# Altium schematic symbol library MezzanineDCDC.SchLib: 25 symbols
Pins are listed as number, name and electrical type; pins without a type are passive.

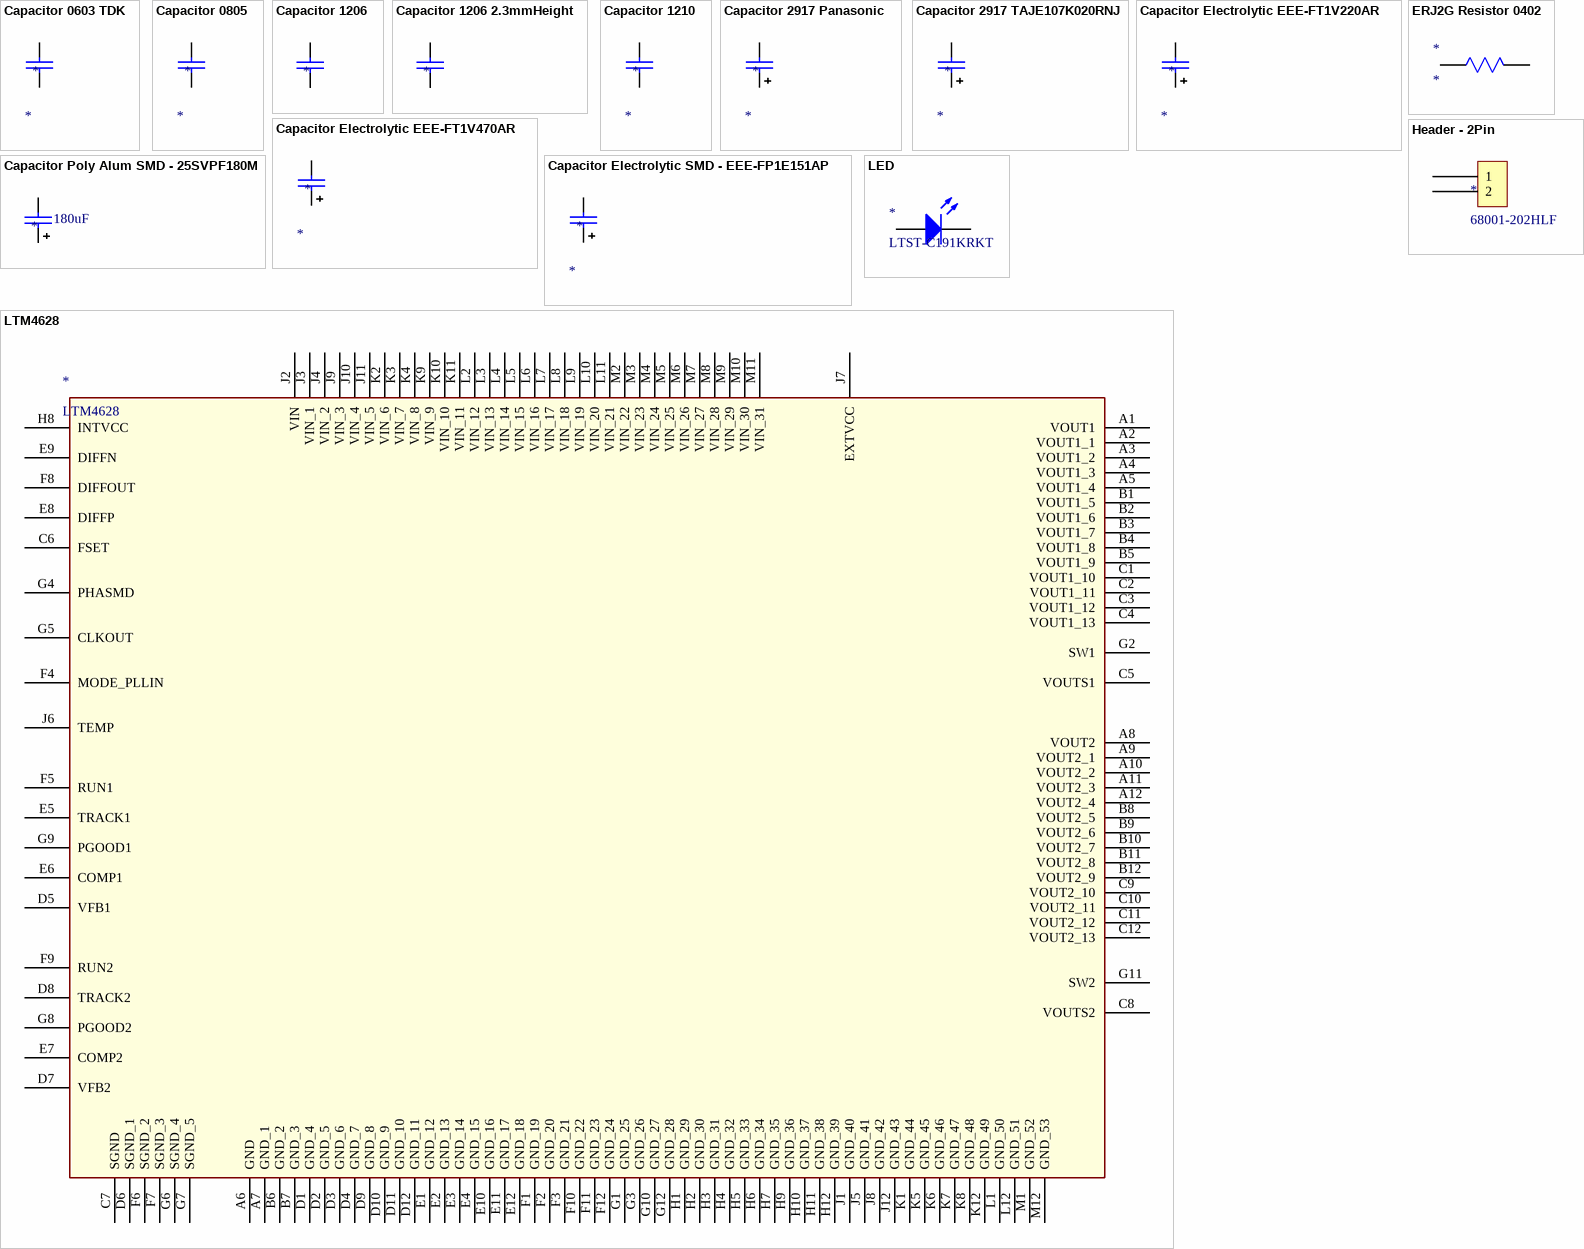
[diagram p0: symbols Capacitor 0603 TDK to LTM4628]

## Capacitor 0603 TDK
designator *
Value: *
footprint Cap 0603 TDK
pins: 1, 2

## Capacitor 0805
designator *
Value: *
pins: 1, 2

## Capacitor 1206
designator *  (value not drawn)
Value: *
footprint CAP 1206 TDK
pins: 1, 2

## Capacitor 1206 2.3mmHeight
designator *  (value not drawn)
Value: *
footprint CAP 1206 TDK 2.3 Height
pins: 1, 2

## Capacitor 1210
designator *
Value: *
footprint CAP 1210 Murata
pins: 1, 2

## Capacitor 2917 Panasonic
designator *
Value: *
footprint CAP 2917 Tantalum Polarized
pins: 1, 2

## Capacitor 2917 TAJE107K020RNJ
designator *
Value: *
footprint CAP 2917 Tantalum Polarized TAJE107K020RNJ
pins: 1, 2

## Capacitor Electrolytic EEE-FT1V220AR
designator *
Value: *
footprint CAP Electrolytic SMD EEE-FT1V220AR
pins: 1, 2

## Capacitor Electrolytic EEE-FT1V470AR
designator *
Value: *
footprint CAP Electrolytic SMD EEE-FT1V470AR
pins: 1, 2

## Capacitor Electrolytic SMD - EEE-FP1E151AP
designator *
Value: *
footprint CAP Electrolytic SMD
pins: 1, 2

## Capacitor Poly Alum SMD - 25SVPF180M
designator *, comment value 180uF  (hidden comment: 25SVPF180M)
180µF 25V Aluminum - Polymer Capacitors Radial, Can - SMD 16mOhm 5000 Hrs @ 105°C; ComponentLink1Description: Digikey; ComponentLink1URL: https://www.digikey.com/en/products/detail/panasonic-electronic-components/25SVPF180M/4204842?s=N4IgTCBcDa4KwGUBqAFAYgRgBwAYCyIAugL5A
footprint Poly Alum Cap 25SVPF180M
pins: 1, 2

## ERJ2G Resistor 0402
designator *
Value: *
footprint Resistor ERJ2G/CRCW 0402
pins: 1 0, 2 1

## Header - 2Pin
designator *, comment 68001-202HLF
Connector Header Through Hole 2 position 0.100" (2.54mm); ComponentLink1Description: Digikey; ComponentLink1URL: https://www.digikey.com/en/products/detail/amphenol-icc-fci/68001-202HLF/2023308
footprint Header 2Pin
pins: 1, 2

## LED
designator *, comment LTST-C191KRKT
Red 631nm LED Indication - Discrete 2V 0603 (1608 Metric); ComponentLink1Description: Digikey; ComponentLink1URL: https://www.digikey.com/en/products/detail/lite-on-inc/LTST-C191KRKT/386837?s=N4IgTCBcDaIDIBUDKCC0BhAjATkwaQCU8EQBdAXyA
footprint LED
footprint LED
pins: 1 A, 2 K

## LTM4628
designator *
DC/DC Converter
footprint LTM4628 LGA
pins: A1 VOUT1, A2 VOUT1_1, A3 VOUT1_2, A4 VOUT1_3, A5 VOUT1_4, A6 GND, A7 GND_1, A8 VOUT2, A9 VOUT2_1, A10 VOUT2_2, A11 VOUT2_3, A12 VOUT2_4, B1 VOUT1_5, B2 VOUT1_6, B3 VOUT1_7, B4 VOUT1_8, B5 VOUT1_9, B6 GND_2, B7 GND_3, B8 VOUT2_5, B9 VOUT2_6, B10 VOUT2_7, B11 VOUT2_8, B12 VOUT2_9, C1 VOUT1_10, C2 VOUT1_11, C3 VOUT1_12, C4 VOUT1_13, C5 VOUTS1, C6 FSET, C7 SGND, C8 VOUTS2, C9 VOUT2_10, C10 VOUT2_11, C11 VOUT2_12, C12 VOUT2_13, D1 GND_4, D2 GND_5, D3 GND_6, D4 GND_7, D5 VFB1, D6 SGND_1, D7 VFB2, D8 TRACK2, D9 GND_8, D10 GND_9, D11 GND_10, D12 GND_11, E1 GND_12, E2 GND_13, E3 GND_14, E4 GND_15, E5 TRACK1, E6 COMP1, E7 COMP2, E8 DIFFP, E9 DIFFN, E10 GND_16, E11 GND_17, E12 GND_18, F1 GND_19, F2 GND_20, F3 GND_21, F4 MODE_PLLIN, F5 RUN1, F6 SGND_2, F7 SGND_3, F8 DIFFOUT, F9 RUN2, F10 GND_22, F11 GND_23, F12 GND_24, G1 GND_25, G2 SW1, G3 GND_26, G4 PHASMD, G5 CLKOUT, G6 SGND_4, G7 SGND_5, G8 PGOOD2, G9 PGOOD1, G10 GND_27, G11 SW2, G12 GND_28, H1 GND_29, H2 GND_30, H3 GND_31, H4 GND_32, H5 GND_33, H6 GND_34, H7 GND_35, H8 INTVCC, H9 GND_36, H10 GND_37, H11 GND_38, H12 GND_39, J1 GND_40, J2 VIN, J3 VIN_1, J4 VIN_2, J5 GND_41, J6 TEMP, J7 EXTVCC, J8 GND_42, J9 VIN_3, J10 VIN_4, J11 VIN_5, J12 GND_43, K1 GND_44, K2 VIN_6, K3 VIN_7, K4 VIN_8, K5 GND_45, K6 GND_46, K7 GND_47, K8 GND_48, K9 VIN_9, K10 VIN_10, K11 VIN_11, K12 GND_49, L1 GND_50, L2 VIN_12, L3 VIN_13, L4 VIN_14, L5 VIN_15, L6 VIN_16, L7 VIN_17, L8 VIN_18, L9 VIN_19, L10 VIN_20, L11 VIN_21, L12 GND_51, M1 GND_52, M2 VIN_22, M3 VIN_23, M4 VIN_24, M5 VIN_25, M6 VIN_26, M7 VIN_27, M8 VIN_28, M9 VIN_29, M10 VIN_30, M11 VIN_31, M12 GND_53

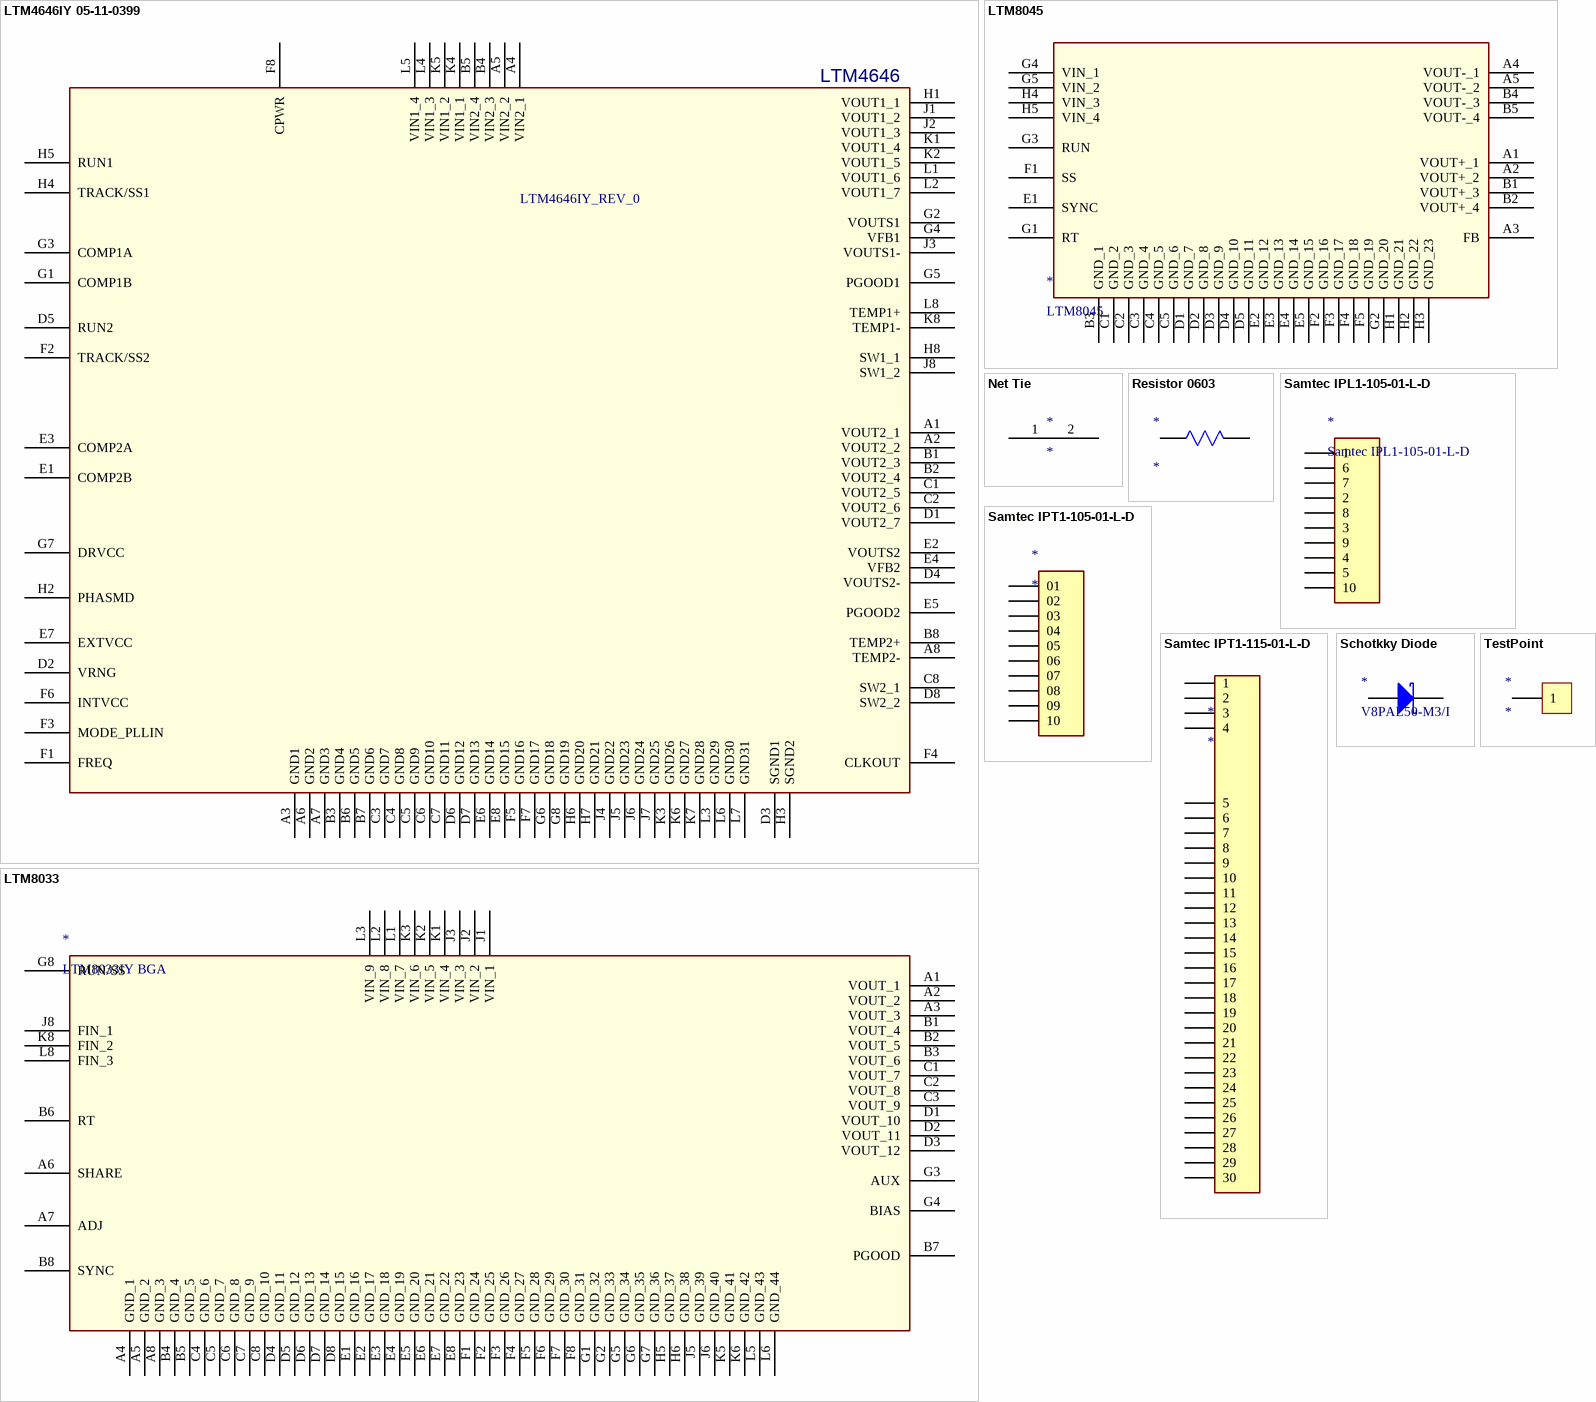
[diagram p1: symbols LTM4646IY 05-11-0399 to TestPoint]

## LTM4646IY 05-11-0399
designator U?, comment LTM4646IY_REV_0  (net tie, no BOM)
footprint 05-11-1541
footprint LTM4646
pins: A1 VOUT2_1, A2 VOUT2_2, A3 GND1, A4 VIN2_1, A5 VIN2_2, A6 GND2, A7 GND3, A8 TEMP2-, B1 VOUT2_3, B2 VOUT2_4, B3 GND4, B4 VIN2_3, B5 VIN2_4, B6 GND5, B7 GND6, B8 TEMP2+, C1 VOUT2_5, C2 VOUT2_6, C3 GND7, C4 GND8, C5 GND9, C6 GND10, C7 GND11, C8 SW2_1, D1 VOUT2_7, D2 VRNG, D3 SGND1, D4 VOUTS2-, D5 RUN2, D6 GND12, D7 GND13, D8 SW2_2, E1 COMP2B, E2 VOUTS2, E3 COMP2A, E4 VFB2, E5 PGOOD2, E6 GND14, E7 EXTVCC, E8 GND15, F1 FREQ, F2 TRACK/SS2, F3 MODE_PLLIN, F4 CLKOUT, F5 GND16, F6 INTVCC, F7 GND17, F8 CPWR, G1 COMP1B, G2 VOUTS1, G3 COMP1A, G4 VFB1, G5 PGOOD1, G6 GND18, G7 DRVCC, G8 GND19, H1 VOUT1_1, H2 PHASMD, H3 SGND2, H4 TRACK/SS1, H5 RUN1, H6 GND20, H7 GND21, H8 SW1_1, J1 VOUT1_2, J2 VOUT1_3, J3 VOUTS1-, J4 GND22, J5 GND23, J6 GND24, J7 GND25, J8 SW1_2, K1 VOUT1_4, K2 VOUT1_5, K3 GND26, K4 VIN1_1, K5 VIN1_2, K6 GND27, K7 GND28, K8 TEMP1-, L1 VOUT1_6, L2 VOUT1_7, L3 GND29, L4 VIN1_3, L5 VIN1_4, L6 GND30, L7 GND31, L8 TEMP1+
text: LTM4646

## LTM8033
designator *, comment LTM8033IY BGA
DC DC CONVERTER 0.8-24V 72W
footprint LTM8033 BGA
pins: A1 VOUT_1, A2 VOUT_2, A3 VOUT_3, A4 GND_1, A5 GND_2, A6 SHARE, A7 ADJ, A8 GND_3, B1 VOUT_4, B2 VOUT_5, B3 VOUT_6, B4 GND_4, B5 GND_5, B6 RT, B7 PGOOD, B8 SYNC, C1 VOUT_7, C2 VOUT_8, C3 VOUT_9, C4 GND_6, C5 GND_7, C6 GND_8, C7 GND_9, C8 GND_10, D1 VOUT_10, D2 VOUT_11, D3 VOUT_12, D4 GND_11, D5 GND_12, D6 GND_13, D7 GND_14, D8 GND_15, E1 GND_16, E2 GND_17, E3 GND_18, E4 GND_19, E5 GND_20, E6 GND_21, E7 GND_22, E8 GND_23, F1 GND_24, F2 GND_25, F3 GND_26, F4 GND_27, F5 GND_28, F6 GND_29, F7 GND_30, F8 GND_31, G1 GND_32, G2 GND_33, G3 AUX, G4 BIAS, G5 GND_34, G6 GND_35, G7 GND_36, G8 RUN/SS, H5 GND_37, H6 GND_38, J1 VIN_1, J2 VIN_2, J3 VIN_3, J5 GND_39, J6 GND_40, J8 FIN_1, K1 VIN_4, K2 VIN_5, K3 VIN_6, K5 GND_41, K6 GND_42, K8 FIN_2, L1 VIN_7, L2 VIN_8, L3 VIN_9, L5 GND_43, L6 GND_44, L8 FIN_3

## LTM8045
designator *
footprint LTM8045 (DCDC Converter)
pins: A1 VOUT+_1, A2 VOUT+_2, A3 FB, A4 VOUT-_1, A5 VOUT-_2, B1 VOUT+_3, B2 VOUT+_4, B3 GND_1, B4 VOUT-_3, B5 VOUT-_4, C1 GND_2, C2 GND_3, C3 GND_4, C4 GND_5, C5 GND_6, D1 GND_7, D2 GND_8, D3 GND_9, D4 GND_10, D5 GND_11, E1 SYNC, E2 GND_12, E3 GND_13, E4 GND_14, E5 GND_15, F1 SS, F2 GND_16, F3 GND_17, F4 GND_18, F5 GND_19, G1 RT, G2 GND_20, G3 RUN, G4 VIN_1, G5 VIN_2, H1 GND_21, H2 GND_22, H3 GND_23, H4 VIN_3, H5 VIN_4

## Net Tie
designator *  (net tie, no BOM)
footprint NET TIE
pins: 1, 2

## Resistor 0603
designator *
Value: *
footprint Resistor 0603 - ERJ
pins: 1 0, 2 1

## Samtec IPL1-105-01-L-D
designator *
5x2 Pin connector; ComponentLink1Description: Samtec; ComponentLink1URL: https://www.samtec.com/products/ipl1
footprint IPL1-105-01-L-D (Discrete wire header)
pins: 1, 2, 3, 4, 5, 6, 7, 8, 9, 10

## Samtec IPT1-105-01-L-D
designator *
5x2 Pin connector
footprint SAMTEC_IPT1-105-01-L-D
pins: 01, 02, 03, 04, 05, 06, 07, 08, 09, 10

## Samtec IPT1-115-01-L-D
designator *
15x2 Pin Connector
footprint IPT1-115-01-L-D
pins: 1, 2, 3, 4, 5, 6, 7, 8, 9, 10, 11, 12, 13, 14, 15, 16, 17, 18, 19, 20, 21, 22, 23, 24, 25, 26, 27, 28, 29, 30

## Schotkky Diode
designator *, comment V8PAL50-M3/I
Diode Schottky 50V 4A Surface Mount DO-221BC (SMPA); ComponentLink1Description: Digikey; ComponentLink1URL: https://www.digikey.com/en/products/detail/vishay-general-semiconductor-diodes-division/V8PAL50-M3-I/4580781
footprint Schottky Diode V8PAL50-M3/I
pins: 1 K, 2 A

## TestPoint
designator *
footprint Test Point
pins: 1